# EAGLE library part SFWR14R (library con-fci)
FPC Connector
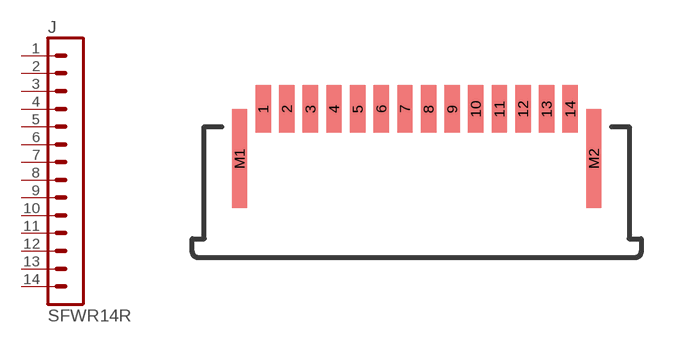
[diagram p4: symbol with the pads of SFW14R; footprint SFW14R]

Designator prefix J

## SFWR14R  [SFW14R]
1  1  pas
2  2  pas
3  3  pas
4  4  pas
5  5  pas
6  6  pas
7  7  pas
8  8  pas
9  9  pas
10  10  pas
11  11  pas
12  12  pas
13  13  pas
14  14  pas

## Footprint SFW14R (pad centres in mm)
FFC/FPC - 1mm Right Angle, SMT Bottom Contact
smd 0.65 x 2: 1 -6.5,1; 2 -5.5,1; 3 -4.5,1; 4 -3.5,1; 5 -2.5,1; 6 -1.5,1; 7 -0.5,1; 8 0.5,1; 9 1.5,1; 10 2.5,1; 11 3.5,1; 12 4.5,1; 13 5.5,1; 14 6.5,1
smd 0.65 x 4.2: M1 -7.5,-1.1; M2 7.5,-1.1